# EAGLE library part ADAFRUIT-TRINKET-5V (library BOBs)
Adafruit Trinket - Mini Microcontroller - 5V Logic
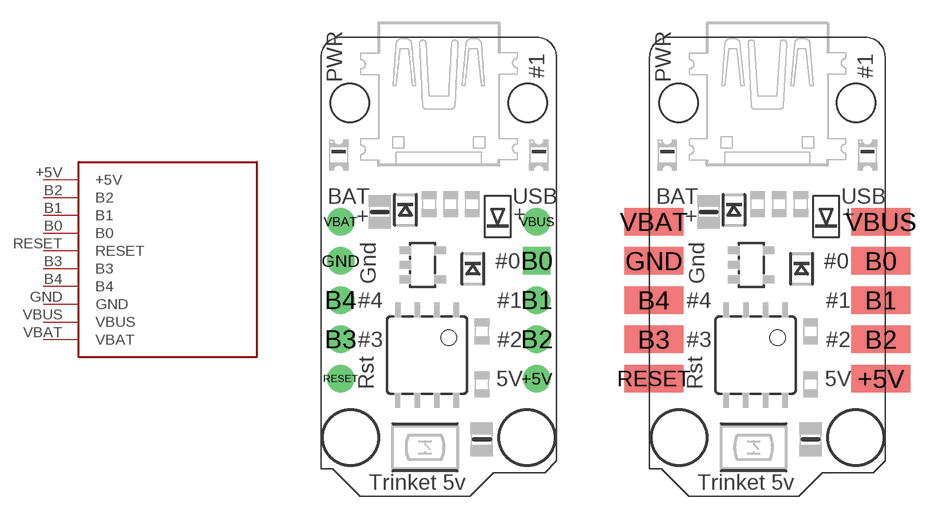
[diagram p6: symbol with the pads of ADAFRUIT-TRINKET-5V; footprints ADAFRUIT-TRINKET-5V, ADAFRUIT-TRINKET-5V-SM]

Designator prefix -

## ADAFRUIT-TRINKET-5V-BOB (DIST: Adafruit; DISTPN: 1501)  [ADAFRUIT-TRINKET-5V]
+5V  +5V
B0  B0
B1  B1
B2  B2
B3  B3
B4  B4
GND  GND
RESET  RESET
VBAT  VBAT
VBUS  VBUS

## ADAFRUIT-TRINKET-5V-SM (DIST: Adafruit; DISTPN: 1501)  [ADAFRUIT-TRINKET-5V-SM]
Pads as for ADAFRUIT-TRINKET-5V

## ADAFRUIT-TRINKET-5V-MICROUSB  [ADAFRUIT-TRINKET-5V-MICROUSB]
Pads as for ADAFRUIT-TRINKET-5V

## ADAFRUIT-TRINKET-5V-MICROUSB-SM  [ADAFRUIT-TRINKET-5V-MICROUSB-SM]
Pads as for ADAFRUIT-TRINKET-5V

## Footprint ADAFRUIT-TRINKET-5V (pad centres in mm)
drill 1.016 pad 1.778: +5V 6.35,-6.35; B1 6.35,-1.27; B2 6.35,-3.81; B3 -6.35,-3.81; B4 -6.35,-1.27; GND -6.35,1.27; RESET -6.35,-6.35; VBAT -6.35,3.81; VBUS 6.35,3.81
drill 1.016 pad 1.778 square: B0 6.35,1.27

## Footprint ADAFRUIT-TRINKET-5V-SM (pad centres in mm)
smd 3.81 x 1.778: +5V 7.35,-6.35; B0 7.35,1.27; B1 7.35,-1.27; B2 7.35,-3.81; B3 -7.35,-3.81; B4 -7.35,-1.27; GND -7.35,1.27; RESET -7.35,-6.35; VBAT -7.35,3.81; VBUS 7.35,3.81

## Footprint ADAFRUIT-TRINKET-5V-MICROUSB (pad centres in mm)
drill 1.016 pad 1.778: +5V 6.35,-6.35; B0 6.35,1.27; B1 6.35,-1.27; B2 6.35,-3.81; B3 -6.35,-3.81; B4 -6.35,-1.27; GND -6.35,1.27; RESET -6.35,-6.35; VBAT -6.35,3.81; VBUS 6.35,3.81
hole 2.2 at -6.096,6.223
hole 2.2 at 6.096,6.223

## Footprint ADAFRUIT-TRINKET-5V-MICROUSB-SM (pad centres in mm)
smd 4 x 1.778: +5V 7.62,-6.35; B0 7.62,1.27; B1 7.62,-1.27; B2 7.62,-3.81; B3 -7.62,-3.81; B4 -7.62,-1.27; GND -7.62,1.27; P$2 7.62,-6.35; RESET -7.62,-6.35; VBAT -7.62,3.81; VBUS 7.62,3.81
hole 2.2 at -6.096,6.223
hole 2.2 at 6.096,6.223